# Altium schematic symbol library LM386.SchLib: 1 symbol
Pins are listed as number, name and electrical type; pins without a type are passive.

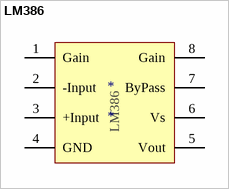
[diagram p0: symbol LM386]

## LM386
designator *
footprint PCBComponent_1
pins: 1 Gain, 2 -Input, 3 +Input, 4 GND, 5 Vout, 6 Vs, 7 ByPass, 8 Gain, 20, 21, 22